# EAGLE library part POT-BOURNS-PDT90 (library 140182-1-v2.1-j2b-synth)
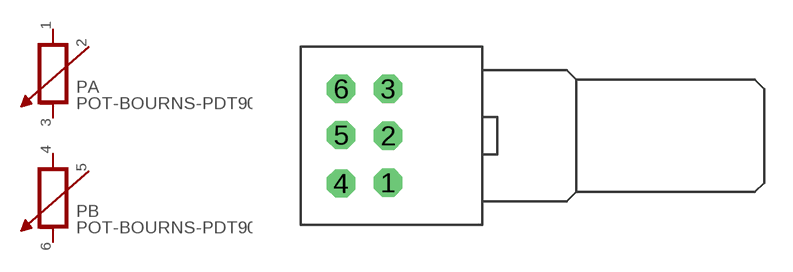
[diagram p3: symbol with the pads of POT-BOURNS-PTD90-2-WAY; footprint POT-BOURNS-PTD90-2-WAY]

Designator prefix P; gates A=R_POT2 B=R_POT2

## POT-BOURNS-PDT90  [POT-BOURNS-PTD90-2-WAY]
1  A:A  pas
2  A:WIPER  pas
3  A:B  pas
4  B:A  pas
5  B:WIPER  pas
6  B:B  pas

## Footprint POT-BOURNS-PTD90-2-WAY (pad centres in mm)
drill 1 octagon: 1 0,-2.5; 2 0,0; 3 0,2.5; 4 -2.5,-2.54; 5 -2.5,0.04; 6 -2.5,2.5